# Altium integrated library Digital_ICs.IntLib: 4 symbols
Pins are listed as number, name and electrical type; pins without a type are passive.

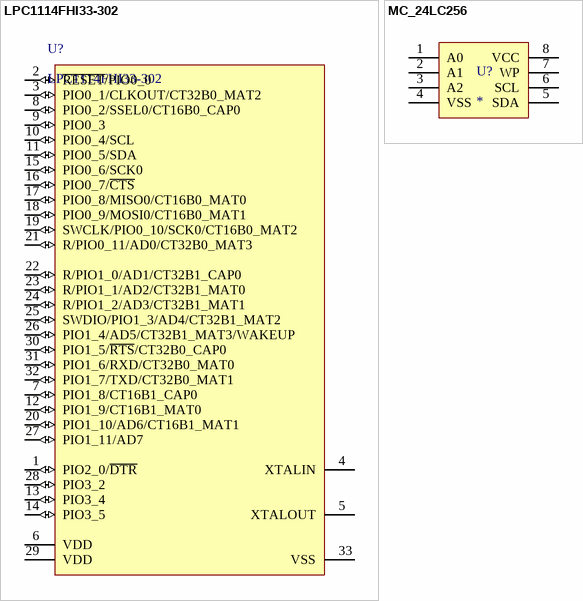
[diagram p0: symbols LPC1114FHI33-302 to MC_24LC256]

## LPC1114FHI33-302
designator U?
NXP Cortex-M0 MCU in 32 HVQFN (+ thermal pad); ComponentLink1URL: http://sv-code.cm.local/svn/datasheets/NXP/mcu/lpc1114/lpc1111.lpc1112.lpc1113.lpc1114.pdf; ComponentLink1Description: Datasheet; ComponentLink2Description: User Manual; ComponentLink2URL: http://sv-code.cm.local/svn/datasheets/NXP/mcu/lpc1114/user.manual.lpc11xx.lpc11cxx.pdf; Supplier 1: Mouser; Supplier 2: Farnell; Supplier Part Number 1: 771-LPC1114FHI333025; Supplier Part Number 2: 2094279; Manufacturer: NXP; PartNumber: LPC1114FHI33-302
footprint NXP-HVQFN32 (QFN, 32-Leads, Body 5x5mm, Pitch 0.5mm, Thermal Pad 3.5x3.5mm, NXP Recommended)
pins: 1 PIO2_0/~{DTR} (io), 2 ~{RESET}/PIO0_0 (io), 3 PIO0_1/CLKOUT/CT32B0_MAT2 (io), 4 XTALIN, 5 XTALOUT, 6 VDD (power), 7 PIO1_8/CT16B1_CAP0 (io), 8 PIO0_2/SSEL0/CT16B0_CAP0 (io), 9 PIO0_3 (io), 10 PIO0_4/SCL (io), 11 PIO0_5/SDA (io), 12 PIO1_9/CT16B1_MAT0 (io), 13 PIO3_4 (io), 14 PIO3_5 (io), 15 PIO0_6/SCK0 (io), 16 PIO0_7/~{CTS} (io), 17 PIO0_8/MISO0/CT16B0_MAT0 (io), 18 PIO0_9/MOSI0/CT16B0_MAT1 (io), 19 SWCLK/PIO0_10/SCK0/CT16B0_MAT2 (io), 20 PIO1_10/AD6/CT16B1_MAT1 (io), 21 R/PIO0_11/AD0/CT32B0_MAT3 (io), 22 R/PIO1_0/AD1/CT32B1_CAP0 (io), 23 R/PIO1_1/AD2/CT32B1_MAT0 (io), 24 R/PIO1_2/AD3/CT32B1_MAT1 (io), 25 SWDIO/PIO1_3/AD4/CT32B1_MAT2 (io), 26 PIO1_4/AD5/CT32B1_MAT3/WAKEUP (io), 27 PIO1_11/AD7 (io), 28 PIO3_2 (io), 29 VDD (power), 30 PIO1_5/~{RTS}/CT32B0_CAP0 (io), 31 PIO1_6/RXD/CT32B0_MAT0 (io), 32 PIO1_7/TXD/CT32B0_MAT1 (io), 33 VSS (power)

## MC_24LC256
designator U?
256kbit E2PROM
footprint SOIC8N_127P600X175 (SOIC, 8-Leads, Body 4.90x3.90mm, Pitch 1.27mm, IPC Medium Density)
pins: 1 A0, 2 A1, 3 A2, 4 VSS, 5 SDA, 6 SCL, 7 WP, 8 VCC


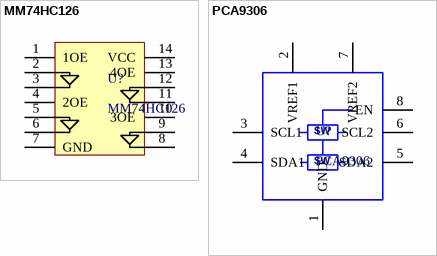
[diagram p1: symbols MM74HC126 to PCA9306]

## MM74HC126
designator U?
NXP Quad Buffer, MM74HC126; PartNumber: MM74HC126
footprint TSSOP14_MO153_4p4_N (TSOP, 14-Leads, Body 5.00x4.40mm, Pitch 0.65mm, IPC Medium Density)
pins: 1 1OE, 2 1A, 3 1Y, 4 2OE, 5 2A, 6 2Y, 7 GND, 8 3Y, 9 3A, 10 3OE, 11 4Y, 12 4A, 13 4OE, 14 VCC

## PCA9306
designator U?
I2C/SMBus level translator; Manufacturer: Texas Instruments; PartNumber: PCA9306; ComponentLink1Description: Datasheet; ComponentLink1URL: http://sv-code.cm.local/svn/datasheets/TI/level_translators/PCA9306/pca9306.pdf
footprint SOIC8N_127P600X175 (SOIC, 8-Leads, Body 4.90x3.90mm, Pitch 1.27mm, IPC Medium Density)
footprint TSSOP8_SOT505-1_NXP_N (TSOP, 8-Leads, Body 3.00x3.00mm, Pitch 0.65mm, IPC Medium Density)
pins: 1 GND, 2 VREF1, 3 SCL1, 4 SDA1, 5 SDA2, 6 SCL2, 7 VREF2, 8 EN
text: SW